# Altium footprint library CUI_SJ-63062A.PcbLib: 1 footprints
Each footprint in its own frame and in the unit in brackets; x right, y up, seen from the top. Pads: shape width x height; smd on the part's side, far side on the other; paste and mask are expansions set on the pad; w line width, h text height; cw(c..) or ccw(c..) is an arc to the next point about the centre after c.
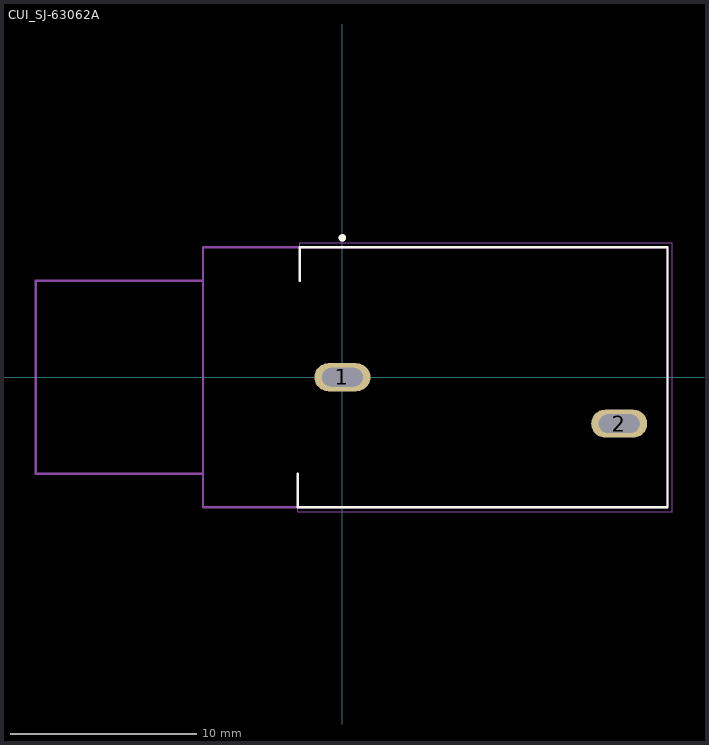
[diagram p0: the footprint, top view; thin cyan lines are the x and y axes]

## CUI_SJ-63062A [mm]
height 12.5
pads (2):
  oval 3.016x1.508 hole 1 slot 2.2 at 0 deg: 1(0,0) 2(14.9,-2.5)
Top Overlay:
  circle w0.2: c0,7.5 r0.1
  lines w0.127: -2.4,-5.2 -2.4,-7 17.5,-7 17.5,7 -2.286,7 -2.286,5.2
Assembly Top:
  circle w0.2: c0,7.5 r0.1
  lines w0.127: -7.5,-5.2 -16.5,-5.2 -16.5,5.2 -7.5,5.2 ; -7.5,-5.2 -7.5,5.2 ; -7.5,-5.2 -7.5,-7 17.5,-7 17.5,7 -7.5,7 -7.5,5.2
Courtyard Top:
  lines w0.05: -2.4,-5.45 -2.4,-7.25 17.75,-7.25 17.75,7.25 -2.3,7.25 -2.3,5.45
3D body "step_temp.STEP": height 12.52, standoff -4.08, extent -16.55,-6.95 17.3,6.95